# Altium footprint library Nuc977-Board.PcbLib: 39 footprints (part 2 of 3)
Each footprint in its own frame and in the unit in brackets; x right, y up, seen from the top. Pads: shape width x height; smd on the part's side, far side on the other; paste and mask are expansions set on the pad; w line width, h text height; cw(c..) or ccw(c..) is an arc to the next point about the centre after c.
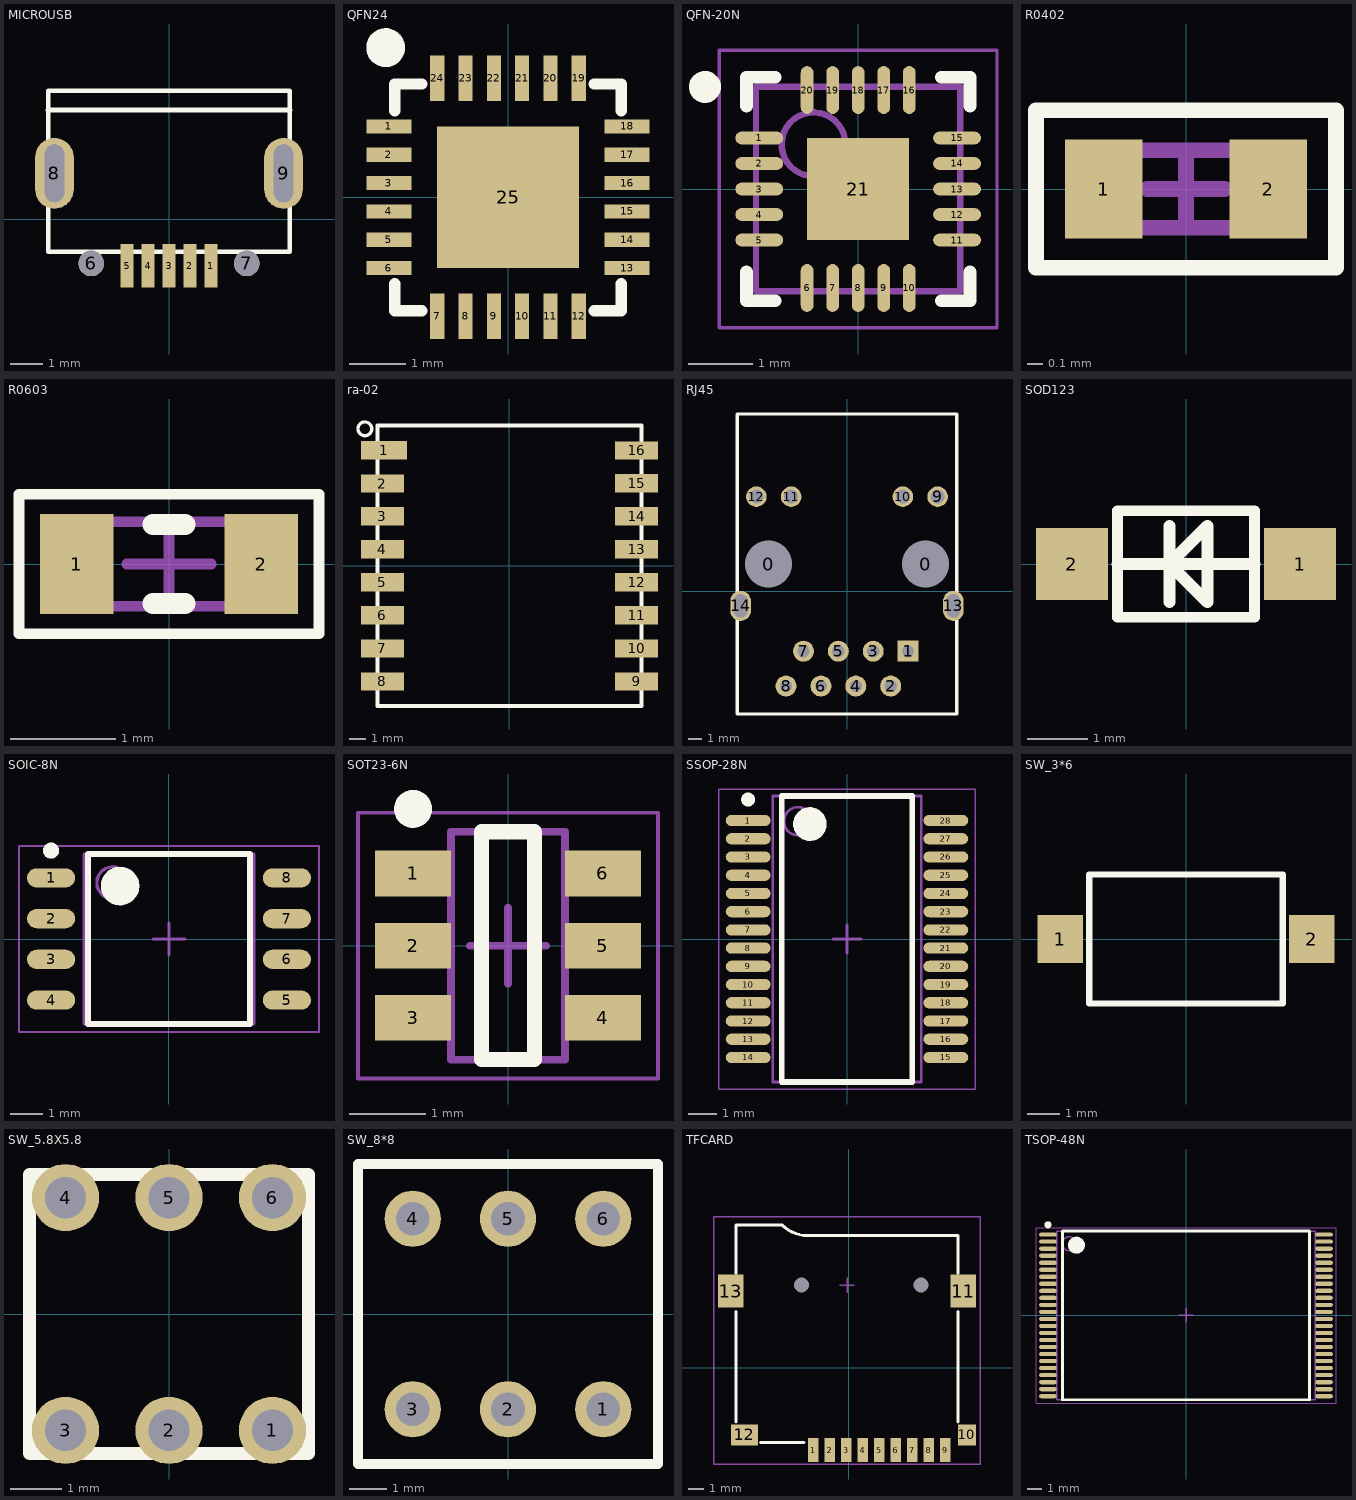
[diagram p1: the footprints below, top view; thin cyan lines are the x and y axes]

## MICROUSB [mm]
pads (9):
  rect 0.4x1.35 smd: 1(1.3,-1.431) 2(0.65,-1.431) 3(0,-1.431) 4(-0.65,-1.431) 5(-1.3,-1.431)
  round 0.8 hole 0.8: 6(-2.413,-1.363) 7(2.413,-1.363)
  oval 1.2x2.2 hole 0.6 slot 1.8 at 90 deg: 8(-3.556,1.431) 9(3.556,1.431)
Top Overlay:
  lines w0.15: -3.75,-1.006 -3.75,3.994 3.75,3.994 3.75,-1.006 -3.75,-1.006
  lines w0.152: -3.75,3.394 3.75,3.394
Mechanical 11:
  text "3" at 0,-1.191 h0.6
  text "2" at 0.65,-1.191 h0.6
  text "4" at -0.65,-1.191 h0.6
  text "7" at -2.875,1.724 h0.6
  text "5" at -1.3,-1.191 h0.6
  text "1" at 1.3,-1.191 h0.6

## QFN24 [mm]
pads (25):
  rect 0.8x0.25 smd: 1(-2.101,1.25) 2(-2.101,0.75) 3(-2.101,0.25) 4(-2.101,-0.25) 5(-2.101,-0.75) 6(-2.101,-1.25) 13(2.101,-1.25) 14(2.101,-0.75) 15(2.101,-0.25) 16(2.101,0.25) 17(2.101,0.75) 18(2.101,1.25)
  rect 0.25x0.8 smd: 7(-1.25,-2.101) 8(-0.75,-2.101) 9(-0.25,-2.101) 10(0.25,-2.101) 11(0.75,-2.101) 12(1.25,-2.101) 19(1.25,2.101) 20(0.75,2.101) 21(0.25,2.101) 22(-0.25,2.101) 23(-0.75,2.101) 24(-1.25,2.101)
  rect 2.5x2.5 smd: 25(0,0)
Top Overlay:
  circle w0.381: c-2.159,2.642 r0.152
  lines w0.2: -2,-1.525 -2,-2 -1.525,-2 ; -2,1.525 -2,2 -1.525,2 ; 1.525,-2 2,-2 2,-1.525 ; 1.525,2 2,2 2,1.525
3D body "User Library-QFN 24 4x4.step": height 0.9, standoff 0, extent -2.002,-2.002 2.002,2.002

## QFN-20N [mm] "QFN, 20-Leads, Body 3.20x3.20mm, Pitch 0.40mm, Thermal Pad 1.60x1.60mm, IPC Medium Density"
height 0.8
pads (21):
  oval 0.75x0.2 smd: 1(-1.55,0.8) 2(-1.55,0.4) 3(-1.55,0) 4(-1.55,-0.4) 5(-1.55,-0.8) 11(1.55,-0.8) 12(1.55,-0.4) 13(1.55,0) 14(1.55,0.4) 15(1.55,0.8)
  oval 0.2x0.75 smd: 6(-0.8,-1.55) 7(-0.4,-1.55) 8(0,-1.55) 9(0.4,-1.55) 10(0.8,-1.55) 16(0.8,1.55) 17(0.4,1.55) 18(0,1.55) 19(-0.4,1.55) 20(-0.8,1.55)
  rect 1.6x1.6 smd: 21(0,0)
Top Overlay:
  circle w0.25: c-2.4,1.6 r0.125
  lines w0.2: -1.75,-1.3 -1.75,-1.75 -1.3,-1.75 ; -1.75,1.3 -1.75,1.75 -1.3,1.75 ; 1.3,-1.75 1.75,-1.75 1.75,-1.3 ; 1.3,1.75 1.75,1.75 1.75,1.3
Mechanical 13:
  circle w0.1: c-0.7,0.7 r0.5
  lines w0.1: -1.6,-1.6 -1.6,1.6 1.6,1.6 1.6,-1.6 -1.6,-1.6
Mechanical 15:
  lines w0.05: -2.175,-2.175 -2.175,2.175 2.175,2.175 2.175,-2.175 -2.175,-2.175
  lines w0.1: -0.5,0 0.5,0 ; 0,-0.5 0,0.5
3D body: height 0.8, standoff 0.01, extent -1.6,-1.6 1.6,1.6

## R0402 [mm]
height 0.9
pads (2):
  rect 0.5x0.64 smd: 1(-0.53,0) 2(0.53,0)
Top Overlay:
  lines w0.1: -0.965,-0.508 0.965,-0.508 0.965,0.508 -0.965,0.508 -0.965,-0.508
Mechanical 13:
  lines w0.1: -0.5,-0.25 -0.5,0.25 0.5,0.25 0.5,-0.25 -0.5,-0.25
Mechanical 15:
  lines w0.1: -0.25,0 0.25,0 ; 0,-0.25 0,0.25
3D body: height 0.9, standoff 0, extent -0.35,-0.25 0.35,0.25
3D body: height 0.9, standoff 0, extent -0.5,-0.25 -0.35,0.25
3D body: height 0.9, standoff 0, extent 0.35,-0.25 0.5,0.25

## R0603 [mm] "Chip Capacitor, 2-Leads, Body 1.60x0.80mm, IPC Medium Density"
height 0.9
pads (2):
  rect 0.7x0.95 smd: 1(-0.875,0) 2(0.875,0)
Top Overlay:
  lines w0.1: -1.422,-0.66 1.422,-0.66 1.422,0.66 -1.422,0.66 -1.422,-0.66
  lines w0.2: -0.15,-0.375 0.15,-0.375 ; -0.15,0.375 0.15,0.375
Mechanical 13:
  lines w0.1: -0.8,-0.4 -0.8,0.4 0.8,0.4 0.8,-0.4 -0.8,-0.4
Mechanical 15:
  lines w0.1: -0.4,0 0.4,0 ; 0,-0.4 0,0.4
3D body: height 0.9, standoff 0, extent -0.6,-0.4 0.6,0.4
3D body: height 0.9, standoff 0, extent -0.8,-0.4 -0.6,0.4
3D body: height 0.9, standoff 0, extent 0.6,-0.4 0.8,0.4

## ra-02 [mm]
pads (16):
  rect 2.8x1.1 smd: 1(-7.6,7)
  rect 2.6x1.1 smd: 2(-7.7,4.987) 3(-7.7,3) 4(-7.7,1) 5(-7.7,-1) 6(-7.7,-3) 7(-7.7,-5) 8(-7.7,-7) 9(7.7,-7) 10(7.7,-5) 11(7.7,-3) 12(7.7,-1) 13(7.7,1) 14(7.7,3) 15(7.7,5) 16(7.7,6.994)
Top Overlay:
  circle w0.2: c-8.763,8.304 r0.417
  lines w0.254: -8,-8.5 8,-8.5 8,8.5 -8,8.5 -8,-8.5

## RJ45 [mm]
pads (16):
  round 2.9 hole 3.4: 0(-5.714,1.995) 0(5.716,1.995)
  rect 1.524x1.524 hole 0.889: 1(4.45,-4.355)
  round 1.524 hole 0.889: 2(3.18,-6.895) 3(1.91,-4.355) 4(0.64,-6.895) 5(-0.63,-4.355) 6(-1.9,-6.895) 7(-3.17,-4.355) 8(-4.44,-6.895)
  round 1.5 hole 1.02: 9(6.6,6.895) 10(4.064,6.895) 11(-4.064,6.895) 12(-6.6,6.895)
  oval 1.5x2.2 hole 1 slot 1.7 at 90 deg: 13(7.75,-1.053) 14(-7.75,-1.053)
Top Overlay:
  lines w0.254: -8,-8.927 0,-8.927 8,-8.927 8,12.917 0,12.917 -8,12.917 -8,-8.927
3D body "User Library-HR911105A.step": height 14, standoff -2.5, extent -7.975,-8.48 7.905,12.92

## SOD123 [mm]
pads (2):
  rect 1.2x1.2 smd: 1(1.905,0) 2(-1.905,0)
Top Overlay:
  lines w0.178: -1.143,-0.889 -1.143,0.889 1.143,0.889 1.143,0.445 1.143,-0.445 1.143,-0.889 -1.143,-0.889
  lines w0.2: -1.143,0 1.143,0 ; -0.279,-0.635 -0.279,0.635 ; -0.279,0 0.356,0.635 0.356,-0.635 -0.279,0
3D body "User Library-SOD3716X14.step": height 1.35, standoff 0, extent -1.825,-0.775 1.875,0.775

## SOIC-8N [mm] "SOIC, 8-Leads, Body 5.30x5.30mm, Pitch 1.27mm, IPC Medium Density"
height 1.8
pads (8):
  oval 1.5x0.6 smd: 1(-3.675,1.905) 2(-3.675,0.635) 3(-3.675,-0.635) 4(-3.675,-1.905) 5(3.675,-1.905) 6(3.675,-0.635) 7(3.675,0.635) 8(3.675,1.905)
Top Overlay:
  circle w0.6: c-1.525,1.65 r0.3
  circle w0.25: c-3.675,2.755 r0.125
  lines w0.2: -2.525,-2.65 2.525,-2.65 2.525,2.65 -2.525,2.65 -2.525,-2.65
Mechanical 13:
  circle w0.1: c-1.75,1.75 r0.5
  lines w0.1: -2.65,-2.65 2.65,-2.65 2.65,2.65 -2.65,2.65 -2.65,-2.65
Mechanical 15:
  lines w0.05: -4.675,-2.9 4.675,-2.9 4.675,2.9 -4.675,2.9 -4.675,-2.9
  lines w0.1: -0.5,0 0.5,0 ; 0,-0.5 0,0.5
3D body: height 1.8, standoff 0.1, extent -2.65,-2.65 2.65,2.65

## SOT23-6N [mm] "SOT23, 6-Leads, Body 3.00x2.60mm, Pitch 0.95mm, IPC Medium Density"
height 1.1
pads (6):
  rect 1x0.6 smd: 1(-1.25,0.95) 2(-1.25,0) 3(-1.25,-0.95) 4(1.25,-0.95) 5(1.25,0) 6(1.25,0.95)
Top Overlay:
  circle w0.25: c-1.25,1.8 r0.125
  lines w0.2: -0.35,-1.5 -0.35,1.5 0.35,1.5 0.35,-1.5 -0.35,-1.5
Mechanical 13:
  lines w0.1: -0.75,-1.5 0.75,-1.5 0.75,1.5 -0.75,1.5 -0.75,-1.5
Mechanical 15:
  lines w0.05: -1.975,-1.75 1.975,-1.75 1.975,1.75 -1.975,1.75 -1.975,-1.75
  lines w0.1: -0.5,0 0.5,0 ; 0,-0.5 0,0.5
3D body: height 1.1, standoff 0.05, extent -0.75,-1.5 0.75,1.5

## SSOP-28N [mm]
pads (28):
  oval 1.6x0.4 smd: 1(-3.525,4.225) 2(-3.525,3.575) 3(-3.525,2.925) 4(-3.525,2.275) 5(-3.525,1.625) 6(-3.525,0.975) 7(-3.525,0.325) 8(-3.525,-0.325) 9(-3.525,-0.975) 10(-3.525,-1.625) 11(-3.525,-2.275) 12(-3.525,-2.925) 13(-3.525,-3.575) 14(-3.525,-4.225) 15(3.525,-4.225) 16(3.525,-3.575) 17(3.525,-2.925) 18(3.525,-2.275) 19(3.525,-1.625) 20(3.525,-0.975) 21(3.525,-0.325) 22(3.525,0.325) 23(3.525,0.975) 24(3.525,1.625) 25(3.525,2.275) 26(3.525,2.925) 27(3.525,3.575) 28(3.525,4.225)
Top Overlay:
  circle w0.25: c-3.525,4.975 r0.125
  circle w0.6: c-1.325,4.1 r0.3
  lines w0.2: -2.325,-5.1 -2.325,5.1 2.325,5.1 2.325,-5.1 -2.325,-5.1
Mechanical 13:
  circle w0.1: c-1.75,4.2 r0.5
  lines w0.1: -2.65,-5.1 -2.65,5.1 2.65,5.1 2.65,-5.1 -2.65,-5.1
Mechanical 15:
  lines w0.05: -4.575,-5.35 -4.575,5.35 4.575,5.35 4.575,-5.35 -4.575,-5.35
  lines w0.1: -0.5,0 0.5,0 ; 0,-0.5 0,0.5
3D body: height 2.65, standoff 0.1, extent -2.65,-5.1 2.65,5.1

## SW_3*6 [mm]
pads (2):
  rect 1.4x1.5 smd: 1(-3.9,0) 2(3.9,0)
Top Overlay:
  lines w0.2: -3,-2 3,-2 3,2 -3,2 -3,-2

## SW_5.8X5.8 [mm]
pads (6):
  round 1.3 hole 0.8: 1(2,-2.25) 2(0,-2.25) 3(-2,-2.25) 4(-2,2.25) 5(0,2.25) 6(2,2.25)
Top Overlay:
  lines w0.254: -2.7,-2.7 2.7,-2.7 2.7,2.7 -2.7,2.7 -2.7,-2.7
3D body: height 10.4, standoff 0.3, extent -1.5,-1.487 1.5,1.513
3D body: height 5.3, standoff 0.3, extent -2.675,-2.675 2.675,2.7

## SW_8*8 [mm]
pads (6):
  round 1.5 hole 0.9: 1(2.54,-2.54) 2(0,-2.54) 3(-2.54,-2.54) 4(-2.54,2.54) 5(0,2.54) 6(2.54,2.54)
Top Overlay:
  lines w0.254: -4,-4 -4,4 4,4 4,-4 -4,-4
3D body: height 11.75, standoff 0.5, extent -2,-2 2,2
3D body: height 8, standoff 0.5, extent -4,-4 4,4

## TFCARD [mm]
pads (15):
  rect 0.7x1.6 smd: 1(-2.377,-5.504) 2(-1.277,-5.504) 3(-0.177,-5.504) 4(0.923,-5.504) 5(2.023,-5.504) 6(3.123,-5.504) 7(4.223,-5.504) 8(5.323,-5.504) 9(6.423,-5.504)
  rect 1.2x1.4 smd: 10(7.877,-4.496)
  rect 1.7x2.2 smd: 11(7.623,5.104) 13(-7.877,5.104)
  rect 1.8x1.4 smd: 12(-6.977,-4.496)
  round 0 hole 1: ""(-3.177,5.504) ""(4.798,5.504)
Top Overlay:
  lines w0.2: -7.527,-3.64 -7.527,3.726 ; -7.527,6.266 -7.527,9.504 -4.445,9.504 ccw(c-2.755,11.194) -2.755,8.804 -0.889,8.804 ; -5.883,-4.996 -3.007,-4.996 ; -1.143,8.804 7.273,8.804 7.273,6.266 ; 7.273,-3.64 7.273,3.726
Mechanical 15:
  lines w0.1: -0.627,5.504 0.373,5.504 ; -0.127,5.004 -0.127,6.004 ; -9.017,-6.434 8.763,-6.434 8.763,10.076 -9.017,10.076 -9.017,-6.434
3D body "User Library-MEM2055-00-190-01-A_revG.step": height 1.95, standoff -0.5, extent -8.102,-5.821 7.898,9.429

## TSOP-48N [mm] "TSSOP, 48-Leads, Body 12.00x18.40mm, Pitch 0.50mm, IPC Medium Density"
height 1.2
pads (48):
  oval 1.25x0.3 smd: 1(-9.825,5.75) 2(-9.825,5.25) 3(-9.825,4.75) 4(-9.825,4.25) 5(-9.825,3.75) 6(-9.825,3.25) 7(-9.825,2.75) 8(-9.825,2.25) 9(-9.825,1.75) 10(-9.825,1.25) 11(-9.825,0.75) 12(-9.825,0.25) 13(-9.825,-0.25) 14(-9.825,-0.75) 15(-9.825,-1.25) 16(-9.825,-1.75) 17(-9.825,-2.25) 18(-9.825,-2.75) 19(-9.825,-3.25) 20(-9.825,-3.75) 21(-9.825,-4.25) 22(-9.825,-4.75) 23(-9.825,-5.25) 24(-9.825,-5.75) 25(9.825,-5.75) 26(9.825,-5.25) 27(9.825,-4.75) 28(9.825,-4.25) 29(9.825,-3.75) 30(9.825,-3.25) 31(9.825,-2.75) 32(9.825,-2.25) 33(9.825,-1.75) 34(9.825,-1.25) 35(9.825,-0.75) 36(9.825,-0.25) 37(9.825,0.25) 38(9.825,0.75) 39(9.825,1.25) 40(9.825,1.75) 41(9.825,2.25) 42(9.825,2.75) 43(9.825,3.25) 44(9.825,3.75) 45(9.825,4.25) 46(9.825,4.75) 47(9.825,5.25) 48(9.825,5.75)
Top Overlay:
  circle w0.6: c-7.8,5 r0.3
  circle w0.25: c-9.825,6.45 r0.125
  lines w0.2: -8.8,-6 8.8,-6 8.8,6 -8.8,6 -8.8,-6
Mechanical 13:
  circle w0.1: c-8.3,5.1 r0.5
  lines w0.1: -9.2,-6 9.2,-6 9.2,6 -9.2,6 -9.2,-6
Mechanical 15:
  lines w0.05: -10.675,-6.25 10.675,-6.25 10.675,6.25 -10.675,6.25 -10.675,-6.25
  lines w0.1: -0.5,0 0.5,0 ; 0,-0.5 0,0.5
3D body: height 1.2, standoff 0.1, extent -9.2,-6 9.2,6